# Altium footprint library Passive-Res.PcbLib: 36 footprints (part 1 of 3)
Each footprint in its own frame and in the unit in brackets; x right, y up, seen from the top. Pads: shape width x height; smd on the part's side, far side on the other; paste and mask are expansions set on the pad; w line width, h text height; cw(c..) or ccw(c..) is an arc to the next point about the centre after c.
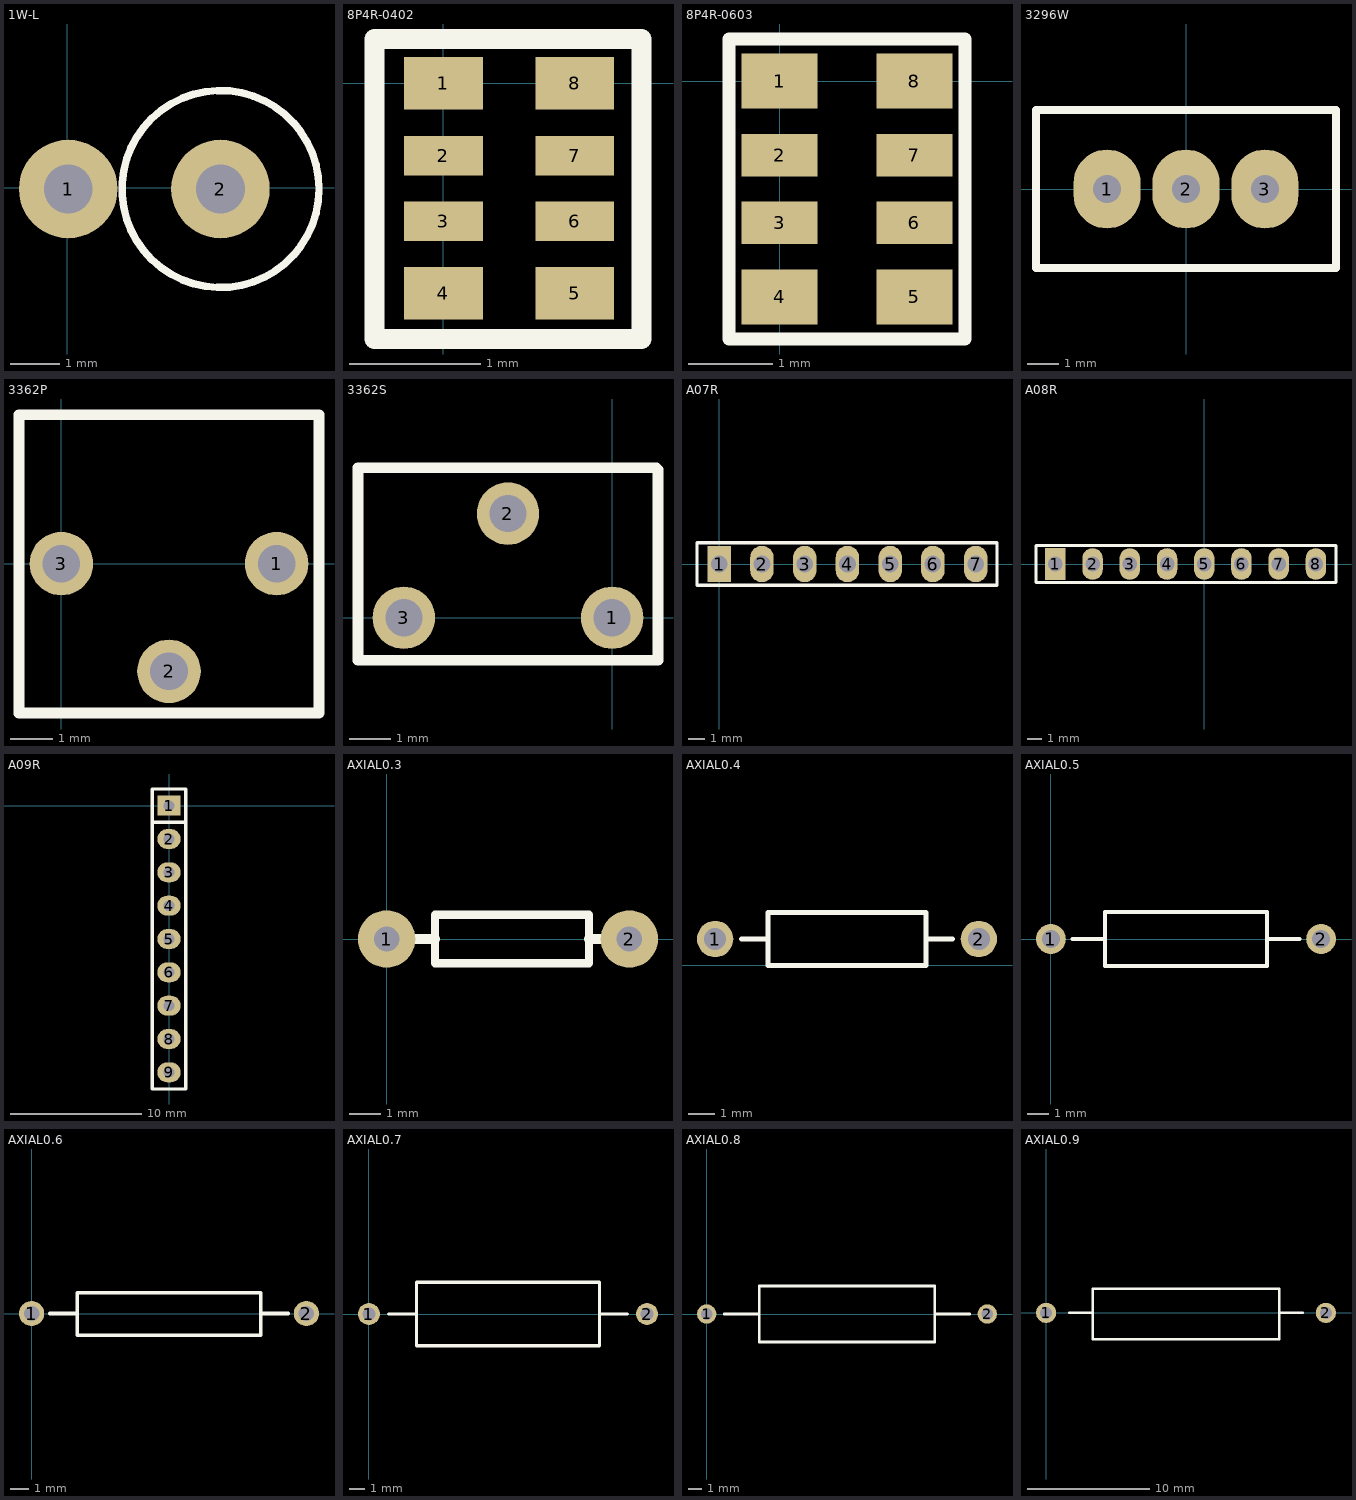
[diagram p0: the footprints below, top view; thin cyan lines are the x and y axes]

## 1W-L [mil]
pads (2):
  round 79 hole 39: 1(0.95,-1) 2(123,-1)
Top Overlay:
  circle w6: c123,-1 r79
Bottom Courtyard:
  text ".Designator" at 381.75,-21.67 h60
3D body "1W Carbon Film Resistor.STEP": height 572.61, standoff -75.5, extent -14.23,-84.35 206.23,81

## 8P4R-0402 [mm]
pads (8):
  rect 0.6x0.4 smd: 1(0,0) 4(0,-1.6) 5(1,-1.6) 8(1,0)
  rect 0.6x0.3 smd: 2(0,-0.55) 3(0,-1.05) 6(1,-1.05) 7(1,-0.55)
Top Overlay:
  lines w0.152: -0.524,-1.947 1.508,-1.947 1.508,0.339 -0.524,0.339 -0.524,-1.947
Bottom Courtyard:
  text ".Designator" at 8.11,-1.312 h1.52
3D body "8P4R-0402.STEP": height 0.45, standoff 0, extent 0.016,-1.813 1.016,0.187

## 8P4R-0603 [mm]
pads (8):
  rect 0.9x0.65 smd: 1(0,0) 4(0,-2.56) 5(1.6,-2.56) 8(1.6,0)
  rect 0.9x0.5 smd: 2(0,-0.88) 3(0,-1.68) 6(1.6,-1.68) 7(1.6,-0.88)
Top Overlay:
  lines w0.152: -0.597,-3.058 2.197,-3.058 2.197,0.498 -0.597,0.498 -0.597,-3.058
Bottom Courtyard:
  text ".Designator" at 8.418,-1.788 h1.52
3D body "8P4R-0603.STEP": height 0.6, standoff 0, extent 0.051,-2.87 1.651,0.33

## 3296W [mil]
pads (3):
  oval 85x100 hole 35: 1(-100,0) 2(0,0) 3(100,0)
Top Overlay:
  lines w10: -190,-100 -190,100 190,100 190,-100 -190,-100
Bottom Courtyard:
  text ".Designator" at 299.9,-19.99 h60
3D body "User Library-3296W.step": height 454.72, standoff -62.99, extent -187.6,-94.49 187.6,94.49

## 3362P [mm]
pads (3):
  round 1.5 hole 0.889: 1(5.08,0) 2(2.54,-2.54) 3(0,0)
Top Overlay:
  lines w0.254: -1,-3.531 -1,3.516 ; -1,-3.524 6.08,-3.524 ; -0.991,3.516 6.08,3.516 6.08,-3.505
Bottom Courtyard:
  text ".Designator" at 10.158,-0.46 h1.52
3D body "3362P.STEP": height 4.7, standoff -5.47, extent -0.76,-3.3 5.84,3.754

## 3362S [mm]
pads (3):
  round 1.5 hole 0.889: 1(0,0) 2(-2.5,2.5) 3(-5,0)
Top Overlay:
  lines w0.254: -6.1,-1.016 1.1,-1.016 ; -6.1,-1.016 -6.1,3.596 1.06,3.596 1.1,3.556 1.1,-1.016 ; -6.1,-1.016 1.1,-1.016
Bottom Courtyard:
  text ".Designator" at 5.118,0.719 h1.52
3D body "3362S.STEP": height 7.11, standoff -5.39, extent -5.84,-1.268 0.76,3.432

## A07R [mil]
pads (7):
  rect 55x85 hole 39: 1(0,0)
  oval 55x85 hole 39: 2(100,0) 3(200,0) 4(300,0) 5(400,0) 6(500,0) 7(600,0)
Top Overlay:
  lines w7.87: -52,-50 650,-50 650,50 100,50 48,50 -52,50 -52,-50
Bottom Courtyard:
  text ".Designator" at 598.9,-19.99 h60

## A08R [mil]
pads (8):
  rect 55x85 hole 39: 1(-400,0)
  oval 55x85 hole 39: 2(-300,0) 3(-200,0) 4(-100,0) 5(0,0) 6(100,0) 7(200,0) 8(300,0)
Top Overlay:
  lines w7.87: -452,-50 354,-50 354,50 -300,50 -352,50 -452,50 -452,-50
Bottom Courtyard:
  text ".Designator" at 250.9,-19.99 h60
3D body "User Library-4600H Series (Bourns).step": height 306.75, standoff -173.31, extent -449.02,-50 349.02,48.03

## A09R [mil]
pads (9):
  rect 70x60 hole 32: 1(0,0)
  oval 70x60 hole 32: 2(0,-100) 3(0,-200) 4(0,-300) 5(0,-400) 6(0,-500) 7(0,-600) 8(0,-700) 9(0,-800)
Top Overlay:
  lines w10: -50,-50 50,-50 ; -50,-850 -50,50 50,50 50,-850 -50,-850
Bottom Courtyard:
  text ".Designator" at 299.9,-419.99 h60
3D body "Resistor array 9pin.step": height 169.29, standoff -165.35, extent -24.21,-852.91 25,32.92

## AXIAL0.3 [mm]
pads (2):
  round 1.8 hole 0.8: 1(0,0) 2(7.62,0)
Top Overlay:
  lines w0.254: 1.524,-0.762 1.524,0.762 6.35,0.762 6.35,-0.762 1.524,-0.762
  lines w0.305: 0.762,0 1.524,0 ; 6.35,0 6.858,0
Bottom Courtyard:
  text ".Designator" at 11.428,-0.508 h1.52
3D body "RESISTOR 7_62MM DIP.step": height 1.25, standoff -2.75, extent -0.24,-1 7.86,1

## AXIAL0.4 [mm] "1/4W/1/2W"
height 2.032
pads (2):
  round 1.4 hole 0.85: 1(3.302,1.016) 2(13.462,1.016)
Top Overlay:
  lines w0.2: 4.318,1.016 5.334,1.016 ; 11.43,1.016 12.446,1.016 ; 5.334,0 11.43,0 11.43,2.032 5.334,2.032 5.334,0
Bottom Courtyard:
  text ".Designator" at 16,0.508 h1.52
3D body "AXIAL-0.4-0.25W.STEP": height 2.63, standoff -2.64, extent 3.002,-0.244 13.762,2.276

## AXIAL0.5 [mm] "1/2W/1W"
height 2.54
pads (2):
  round 1.4 hole 0.85: 1(0,0) 2(12.7,0)
Top Overlay:
  lines w0.2: 1.016,0 2.54,0 ; 10.16,0 11.684,0 ; 2.54,-1.27 2.54,1.27 10.16,1.27 10.16,-1.27 2.54,-1.27
Bottom Courtyard:
  text ".Designator" at 13.968,-0.54 h1.52
3D body "User Library-Resistencia 0_5.STEP": height 3.1, standoff -1.5, extent -0.381,-1.461 13.081,1.397

## AXIAL0.6 [mm] "Variable Resistor; 2 Leads"
height 2.54
pads (2):
  round 1.4 hole 0.85: 1(0,0) 2(15.24,0)
Top Overlay:
  lines w0.2: 1.016,0 2.54,0 ; 12.7,0 14.224,0 ; 2.54,-1.194 12.7,-1.194 12.7,1.143 2.54,1.143 2.54,-1.194
Bottom Courtyard:
  text ".Designator" at 15.238,-0.559 h1.52
3D body "AXIAL06.STEP": height 2.5, standoff -0.8, extent -0.117,-1.351 15.443,1.249

## AXIAL0.7 [mm] "Variable Resistor; 2 Leads"
height 4.064
pads (2):
  round 1.4 hole 0.85: 1(0,0) 2(17.78,0)
Top Overlay:
  lines w0.2: 1.27,0 3.048,0 ; 14.732,0 16.51,0 ; 3.048,-2.032 3.048,2.032 14.732,2.032 14.732,-2.032 3.048,-2.032
Bottom Courtyard:
  text ".Designator" at 16.508,-0.621 h1.52
3D body "AXIAL07.STEP": height 4.3, standoff -1, extent -0.324,-2.413 18.136,2.187

## AXIAL0.8 [mm] "Adjustable Inductor; 2 Leads"
height 4.064
pads (2):
  round 1.4 hole 0.85: 1(0,0) 2(20.32,0)
Top Overlay:
  lines w0.2: 1.27,0 3.81,0 ; 16.51,0 19.05,0 ; 3.81,-2.032 3.81,2.032 16.51,2.032 16.51,-2.032 3.81,-2.032
Bottom Courtyard:
  text ".Designator" at 17.778,-0.545 h1.52
3D body "AXIAL08.STEP": height 4.3, standoff -1, extent -0.348,-2.337 20.752,2.263

## AXIAL0.9 [mm] "Magnetic-Core Inductor; 2 Leads"
height 5.08
pads (2):
  round 1.65 hole 1: 1(0,0) 2(22.86,0)
Top Overlay:
  lines w0.2: 1.905,0 3.81,0 ; 19.05,0 20.955,0 ; 3.81,-2.159 19.05,-2.159 19.05,1.981 3.81,1.981 3.81,-2.159
Bottom Courtyard:
  text ".Designator" at 19.048,-0.57 h1.52
3D body "AXIAL09.STEP": height 4.3, standoff -1, extent -0.459,-2.362 23.241,2.238